# EAGLE library part K-HEADER-FEMALE-1X15- (library elpp-tht-v1.4)
FEMALE HEADER
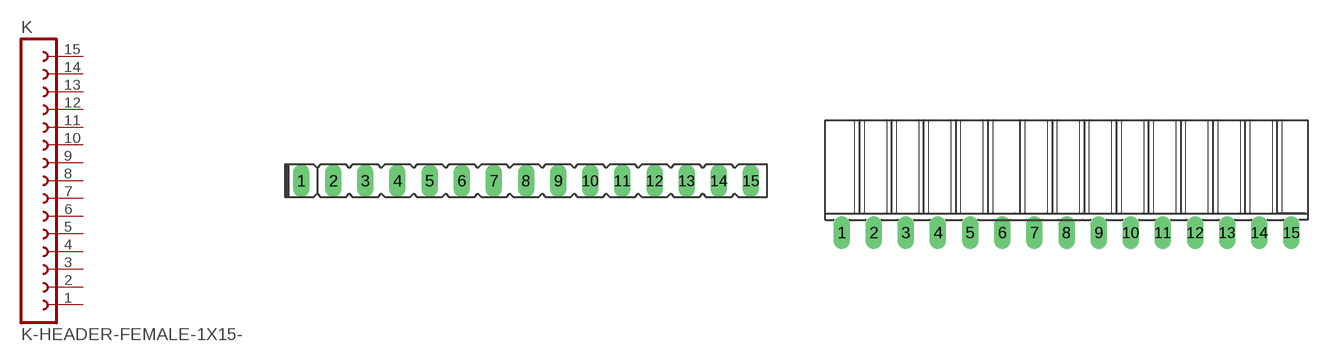
[diagram p27: symbol with the pads of ELPP-SIL-F-15-WAY; footprints ELPP-SIL-F-15-WAY, ELPP-SIL-F-15-WAY-90DEG]

Designator prefix K

## K-HEADER-FEMALE-1X15-V (FARNELL: 9728856; RS: unknown)  [ELPP-SIL-F-15-WAY]
1  1  pas
2  2  pas
3  3  pas
4  4  pas
5  5  pas
6  6  pas
7  7  pas
8  8  pas
9  9  pas
10  10  pas
11  11  pas
12  12  pas
13  13  pas
14  14  pas
15  15  pas

## K-HEADER-FEMALE-1X15-H (FARNELL: 9728880; RS: unknown)  [ELPP-SIL-F-15-WAY-90DEG]
Pads as for ELPP-SIL-F-15-WAY

## Footprint ELPP-SIL-F-15-WAY (pad centres in mm)
FEMALE HEADER, 1 row
drill 0.8 long: 1 -17.78,0; 2 -15.24,0; 3 -12.7,0; 4 -10.16,0; 5 -7.62,0; 6 -5.08,0; 7 -2.54,0; 8 0,0; 9 2.54,0; 10 5.08,0; 11 7.62,0; 12 10.16,0; 13 12.7,0; 14 15.24,0; 15 17.78,0

## Footprint ELPP-SIL-F-15-WAY-90DEG (pad centres in mm)
FEMALE HEADER, 1 row, 90 degrees
drill 0.8 long: 1 -17.78,0; 2 -15.24,0; 3 -12.7,0; 4 -10.16,0; 5 -7.62,0; 6 -5.08,0; 7 -2.54,0; 8 0,0; 9 2.54,0; 10 5.08,0; 11 7.62,0; 12 10.16,0; 13 12.7,0; 14 15.24,0; 15 17.78,0